# EAGLE library part CARD_50PIN (library ARVP)
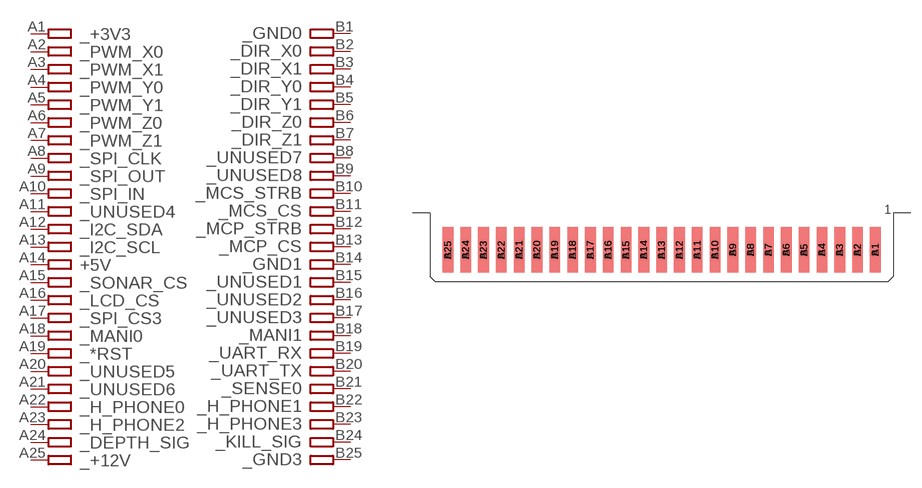
[diagram p10: symbol with the pads of CARD_50PIN; footprint CARD_50PIN]

Designator prefix -

## CARD_50PIN  [CARD_50PIN]
A1  A1
A2  A2
A3  A3
A4  A4
A5  A5
A6  A6
A7  A7
A8  A8
A9  A9
A10  A10
A11  A11
A12  A12
A13  A13
A14  A14
A15  A15
A16  A16
A17  A17
A18  A18
A19  A19
A20  A20
A21  A21
A22  A22
A23  A23
A24  A24
A25  A25
B1  B1
B2  B2
B3  B3
B4  B4
B5  B5
B6  B6
B7  B7
B8  B8
B9  B9
B10  B10
B11  B11
B12  B12
B13  B13
B14  B14
B15  B15
B16  B16
B17  B17
B18  B18
B19  B19
B20  B20
B21  B21
B22  B22
B23  B23
B24  B24
B25  B25

## Footprint CARD_50PIN (pad centres in mm)
smd 1.524 x 6.477: A1 30.48,5.08; A2 27.94,5.08; A3 25.4,5.08; A4 22.86,5.08; A5 20.32,5.08; A6 17.78,5.08; A7 15.24,5.08; A8 12.7,5.08; A9 10.16,5.08; A10 7.62,5.08; A11 5.08,5.08; A12 2.54,5.08; A13 0,5.08; A14 -2.54,5.08; A15 -5.08,5.08; A16 -7.62,5.08; A17 -10.16,5.08; A18 -12.7,5.08; A19 -15.24,5.08; A20 -17.78,5.08; A21 -20.32,5.08; A22 -22.86,5.08; A23 -25.4,5.08; A24 -27.94,5.08; A25 -30.48,5.08
smd 1.524 x 6.477 bottom: B1 30.48,5.08; B2 27.94,5.08; B3 25.4,5.08; B4 22.86,5.08; B5 20.32,5.08; B6 17.78,5.08; B7 15.24,5.08; B8 12.7,5.08; B9 10.16,5.08; B10 7.62,5.08; B11 5.08,5.08; B12 2.54,5.08; B13 0,5.08; B14 -2.54,5.08; B15 -5.08,5.08; B16 -7.62,5.08; B17 -10.16,5.08; B18 -12.7,5.08; B19 -15.24,5.08; B20 -17.78,5.08; B21 -20.32,5.08; B22 -22.86,5.08; B23 -25.4,5.08; B24 -27.94,5.08; B25 -30.48,5.08